# Altium schematic symbol library IRF4905.SchLib: 1 symbol
Pins are listed as number, name and electrical type; pins without a type are passive.

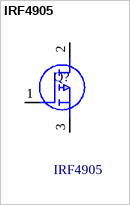
[diagram p0: symbol IRF4905]

## IRF4905
designator Q?
MOSFET Transistor, P-Channel, TO-220AB; Manufacturer_Name: Infineon; Geometry.Height: 4.69mm; Manufacturer_Part_Number: IRF4905; Mouser Part Number: N/A; Mouser Price/Stock: https://www.mouser.co.uk/ProductDetail/Infineon-IR/IRF4905?qs=zO0nedAqnNIhlaIbSqqpvQ%3D%3D; Arrow Part Number: IRF4905; Arrow Price/Stock: https://www.arrow.com/en/products/irf4905/international-rectifier?region=nac; Datasheet Link: https://www.infineon.com/dgdl/irf4905pbf.pdf?fileId=5546d462533600a4015355e329b1197e
footprint TO254P469X1042X1967-3P
pins: 1 G, 2 D, 3 S